# EAGLE library part SMD-BLACK-MALE-HEADER-R/A(6P-2.54) (library OPL-Connector)
320020031
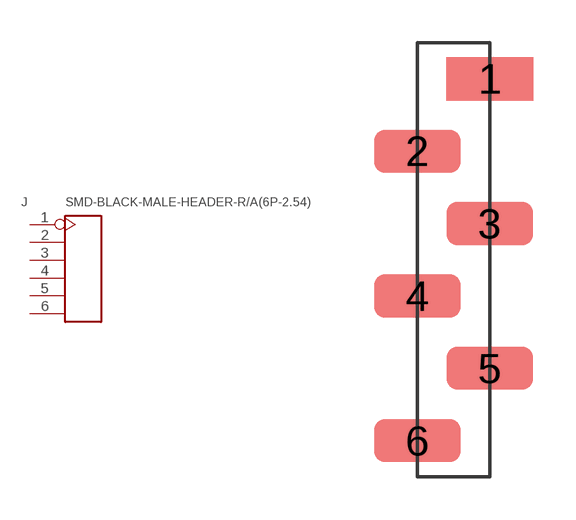
[diagram p7: symbol with the pads of H6-SMD-2.54; footprint H6-SMD-2.54]

Designator prefix J

## SMD-BLACK-MALE-HEADER-R/A(6P-2.54)  [H6-SMD-2.54]
1  1
2  2
3  3
4  4
5  5
6  6

## Footprint H6-SMD-2.54 (pad centres in mm)
smd 3.048 x 1.524: 1 1.27,6.35; 2 -1.27,3.81; 3 1.27,1.27; 4 -1.27,-1.27; 5 1.27,-3.81; 6 -1.27,-6.35